# Altium footprint library PowerDistLib.PcbLib: 31 footprints (part 1 of 2)
Each footprint in its own frame and in the unit in brackets; x right, y up, seen from the top. Pads: shape width x height; smd on the part's side, far side on the other; paste and mask are expansions set on the pad; w line width, h text height; cw(c..) or ccw(c..) is an arc to the next point about the centre after c.
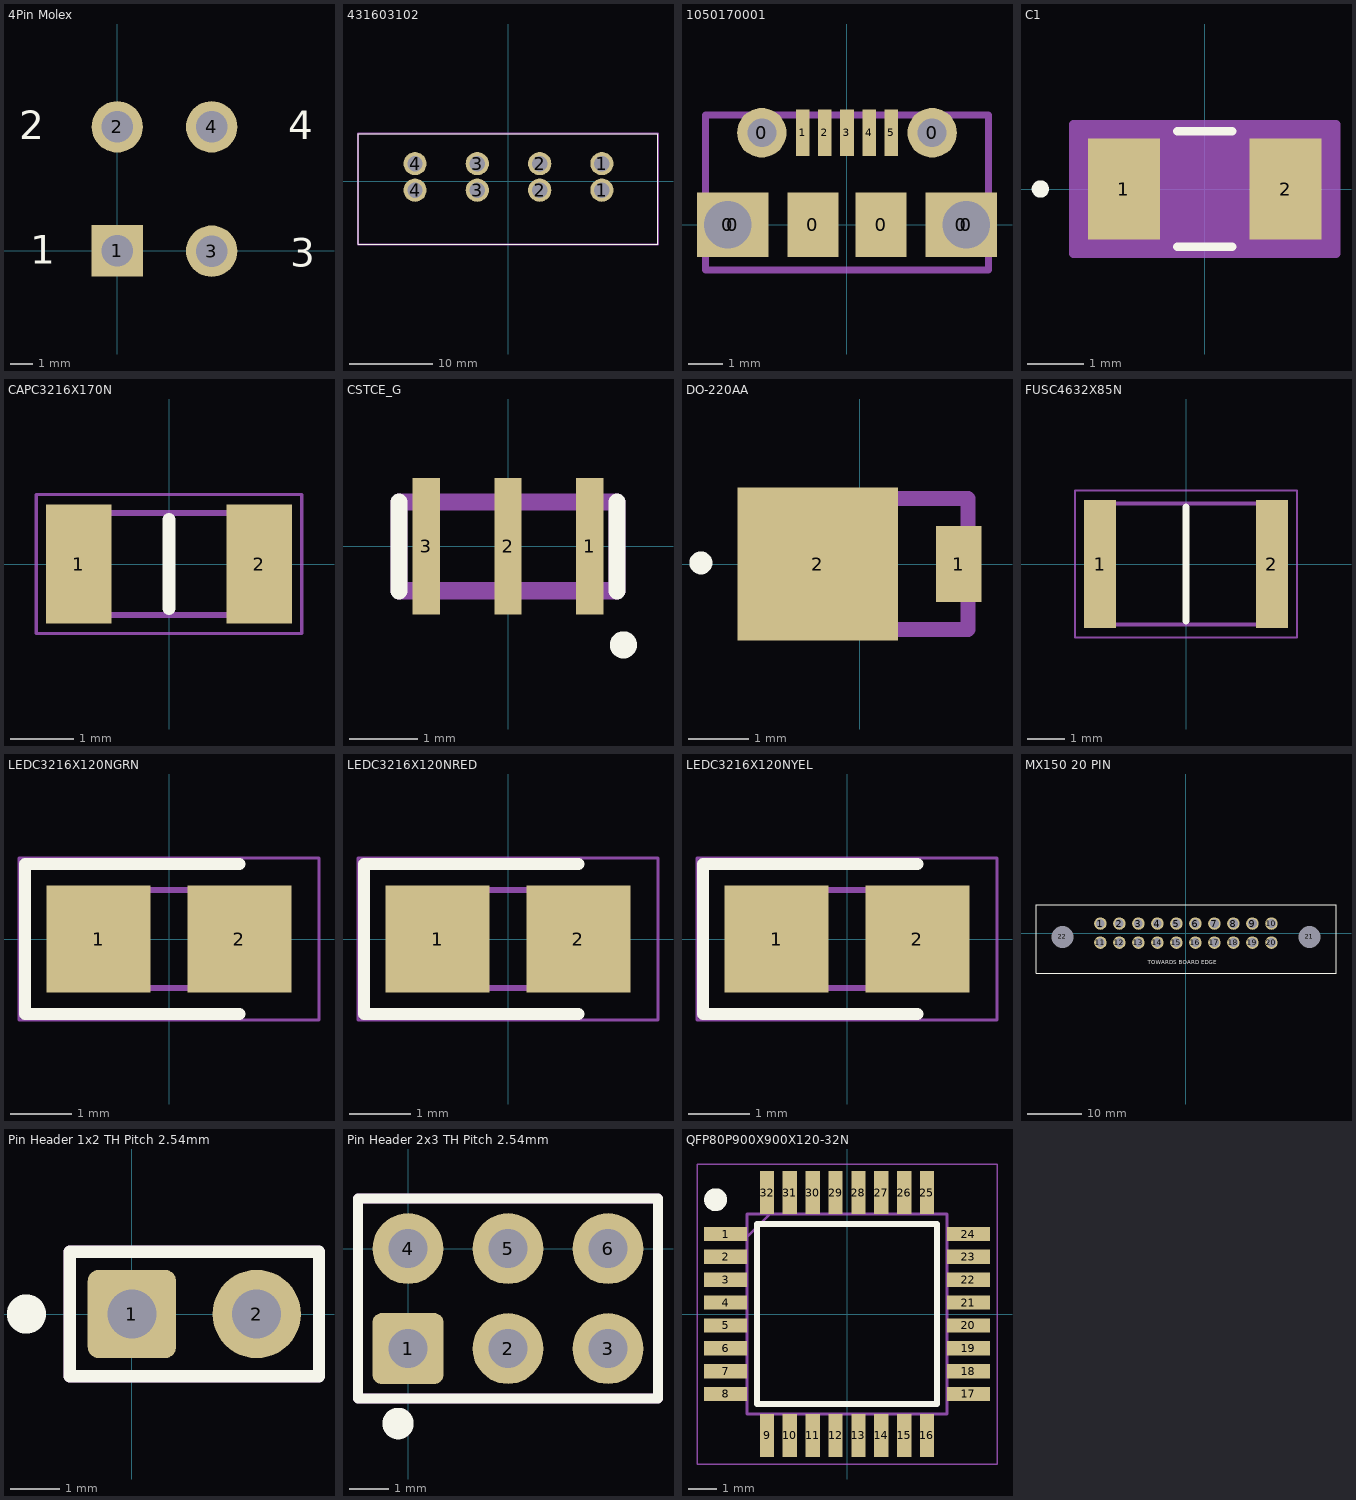
[diagram p0: the footprints below, top view; thin cyan lines are the x and y axes]

## 4Pin Molex [mil]
pads (4):
  rect 90x90 hole 55: 1(0,0)
  round 90 hole 55: 2(-0.1,217) 3(165.4,-0.6) 4(165.4,217)
Top Overlay:
  text "3" at 303.4,-27.8 h50
  text "4" at 299.7,195.1 h50
  text "2" at -172.2,195.1 h50
  text "1" at -152.3,-22.6 h50
3D body "039281043.stp": height 503.94, standoff -137.8, extent -121.92,-85.37 287.53,347.7

## 431603102 [mm]
pads (8):
  round 2.79 hole 1.86: 1(11.292,-1.091) 1(11.292,2.1) 2(3.81,-1.091) 2(3.81,2.1) 3(-3.69,-1.091) 3(-3.69,2.1) 4(-11.18,-1.091) 4(-11.18,2.1)
Top Overlay:
  lines w0.1: -18.034,-7.62 18.034,-7.62 18.034,5.715 -18.034,5.715 -18.034,2.381 -18.034,-4.286 -18.034,-7.62
Mechanical 15:
  lines w0.2: -18.034,-7.62 -18.034,5.715 18.034,5.715 18.034,-4.445 18.034,-7.62 14.859,-7.62 -18.034,-7.62
3D body "431600104.stp": height 15.38, standoff -3.19, extent -18.004,-7.656 18.064,5.73

## 1050170001 [mm]
pads (13):
  round 1.8 hole 1.4: 0(-3.5,0) 0(3.5,0)
  rect 2.1x1.9 smd: 0(-3.35,0) 0(3.35,0)
  round 1.45 hole 0.85: 0(-2.5,2.7) 0(2.5,2.7)
  rect 1.5x1.9 smd: 0(-1,0) 0(1,0)
  rect 0.4x1.35 smd: 1(-1.3,2.7) 2(-0.65,2.7) 3(0,2.7) 4(0.65,2.7) 5(1.3,2.7)
Mechanical 15:
  lines w0.2: 4.1,3.225 -4.15,3.225 -4.15,-1.325 4.15,-1.325 4.15,3.225
3D body "1050170001.stp": height 2.78, standoff -0.53, extent -4.1,-2.5 4.1,2.9

## C1 [mil]
pads (2):
  rect 50x70 smd paste+0 mask+0: 1(-56,0) 2(56,0)
Top Overlay:
  circle w6: c-114,0 r3
  lines w6: -18.89,-40 18.89,-40 ; -18.89,40 18.89,40
Mechanical 13:
  circle w0: c-57,0 r3
  lines w1: -67,-35 -67,35 ; -67,-35 -31,-35 -31,35 -67,35 ; -67,-35 67,-35 ; -67,-35 -67,35 ; -67,35 67,35 ; 67,-35 31,-35 31,35 67,35 ; 67,-35 67,35 ; 67,-35 67,35
Mechanical 15:
  region: 91,-45 -91,-45 -91,45 91,45
  lines w6: -91,-45 -91,45 91,45 91,-45 -91,-45
3D body: height 10, standoff 0, extent 0,0 10,10
3D body "C1.stp": height 30.98, standoff 0, extent -67,-34.99 67.01,35
3D body: height 10, standoff 0, extent -20,10 -20,10
3D body: height 10, standoff 0, extent -20,10 -20,10

## CAPC3216X170N [mm]
pads (2):
  rect 1.03x1.87 smd: 1(-1.42,0) 2(1.42,0)
Top Overlay:
  lines w0.2: 0,-0.7 0,0.7
Mechanical 15:
  lines w0.1: -1.6,-0.8 1.6,-0.8 1.6,0.8 -1.6,0.8 -1.6,-0.8
Mechanical 16:
  lines w0.05: -2.085,-1.09 2.085,-1.09 2.085,1.09 -2.085,1.09 -2.085,-1.09
3D body: height 1.27, standoff 0, extent -2.11,-1.115 2.11,1.115

## CSTCE_G [mm]
pads (3):
  rect 0.4x2 smd: 1(1.2,0) 2(0,0) 3(-1.2,0)
Top Overlay:
  circle w0.254: c1.693,-1.444 r0.072
  lines w0.254: -1.6,-0.65 -1.6,0.65 ; 1.6,-0.65 1.6,0.65
Mechanical 15:
  lines w0.254: -1.6,-0.65 1.6,-0.65 1.6,0.65 -1.6,0.65 -1.6,-0.65
3D body "ceramic-resonator-smd-3mm2x1mm3-muratea-cstce.stp": height 0.7, standoff 0, extent -1.6,-0.65 1.6,0.65

## DO-220AA [mil]
pads (2):
  rect 30x50 smd: 1(65.06,0)
  rect 105.12x100 smd: 2(-27.5,0)
Top Overlay:
  circle w10: c-104.06,0.75 r2.55
Mechanical 15:
  lines w10: -71.06,-42.91 -71.06,42.91 71.06,42.91 71.06,-42.91 -71.06,-42.91
3D body "SMP Package.STEP": height 39.37, standoff 0, extent -75.79,-40 75.78,39.92

## FUSC4632X85N [mm]
pads (2):
  rect 0.85x3.43 smd: 1(-2.3,0) 2(2.3,0)
Top Overlay:
  lines w0.2: 0,-1.52 0,1.52
Mechanical 15:
  lines w0.1: -2.275,-1.62 -2.275,1.62 2.275,1.62 2.275,-1.62 -2.275,-1.62
Mechanical 16:
  lines w0.05: -2.975,-1.965 -2.975,1.965 2.975,1.965 2.975,-1.965 -2.975,-1.965
3D body "MF-MSMF050-2.stp": height 0.85, standoff 0, extent -2.275,-1.62 2.275,1.62

## LEDC3216X120NGRN [mm]
pads (2):
  rect 1.7x1.75 smd: 1(-1.15,0) 2(1.15,0)
Top Overlay:
  lines w0.2: 1.15,-1.225 -2.35,-1.225 -2.35,1.225 1.15,1.225
Mechanical 15:
  lines w0.1: -1.6,0.267 -1.067,0.8 ; -1.6,-0.8 1.6,-0.8 1.6,0.8 -1.6,0.8 -1.6,-0.8
Mechanical 16:
  lines w0.05: -2.45,-1.325 2.45,-1.325 2.45,1.325 -2.45,1.325 -2.45,-1.325
3D body "LED 1206 Grn.stp": height 1.1, standoff 0, extent -1.6,-0.8 1.6,0.8

## LEDC3216X120NRED [mm]
pads (2):
  rect 1.7x1.75 smd: 1(-1.15,0) 2(1.15,0)
Top Overlay:
  lines w0.2: 1.15,-1.225 -2.35,-1.225 -2.35,1.225 1.15,1.225
Mechanical 15:
  lines w0.1: -1.6,0.267 -1.067,0.8 ; -1.6,-0.8 -1.6,0.8 1.6,0.8 1.6,-0.8 -1.6,-0.8
Mechanical 16:
  lines w0.05: -2.45,-1.325 -2.45,1.325 2.45,1.325 2.45,-1.325 -2.45,-1.325
3D body "LED 1206 Red.stp": height 1.1, standoff 0, extent -1.6,-0.8 1.6,0.8

## LEDC3216X120NYEL [mm]
pads (2):
  rect 1.7x1.75 smd: 1(-1.15,0) 2(1.15,0)
Top Overlay:
  lines w0.2: 1.15,-1.225 -2.35,-1.225 -2.35,1.225 1.15,1.225
Mechanical 15:
  lines w0.1: -1.6,0.267 -1.067,0.8 ; -1.6,-0.8 -1.6,0.8 1.6,0.8 1.6,-0.8 -1.6,-0.8
Mechanical 16:
  lines w0.05: -2.45,-1.325 -2.45,1.325 2.45,1.325 2.45,-1.325 -2.45,-1.325
3D body "LED 1206 Yel.stp": height 1.1, standoff 0, extent -1.6,-0.8 1.6,0.8

## MX150 20 PIN [mm]
height 25.29
pads (22):
  round 2.3 hole 1.6: 1(-15.75,1.75) 2(-12.25,1.75) 3(-8.75,1.75) 4(-5.25,1.75) 5(-1.75,1.75) 6(1.75,1.75) 7(5.25,1.75) 8(8.75,1.75) 9(12.25,1.75) 10(15.75,1.75) 11(-15.75,-1.75) 12(-12.25,-1.75) 13(-8.75,-1.75) 14(-5.25,-1.75) 15(-1.75,-1.75) 16(1.75,-1.75) 17(5.25,-1.75) 18(8.75,-1.75) 19(12.25,-1.75) 20(15.75,-1.75)
  round 1.9 hole 4.05 unplated: 21(22.75,-0.71) 22(-22.75,-0.71)
Top Overlay:
  lines w0.203: -27.59,-7.43 27.63,-7.43 27.63,5.24 -27.59,5.24 -27.59,-7.43
  text "TOWARDS BOARD EDGE" at -7,-5.78 h0.76
3D body "348302001.stp": height 23.64, standoff -2.85, extent -31.775,-39.98 31.916,2.579

## PCBComponent_1 [mm]

## Pin Header 1x2 TH Pitch 2.54mm [mm]
pads (2):
  rrect25% 1.8x1.8 hole 1: 1(0,0)
  round 1.8 hole 1: 2(2.54,0)
Top Overlay:
  circle w0.5: c-2.15,0 r0.15
  lines w0.254: 1.27,1.27 -1.27,1.27 ; -1.27,1.27 -1.27,-1.27 3.81,-1.27 3.81,1.27 -1.27,1.27
Mechanical 3:
  lines w0.254: 1.27,1.27 -1.27,1.27 ; -1.27,1.27 -1.27,-1.27 3.81,-1.27 3.81,1.27 -1.27,1.27
3D body "Pin Header 1x2 TH Pitch 2.54mm.stp": height 9.5, standoff -3.2, extent -1.27,-1.27 3.81,1.27

## Pin Header 2x3 TH Pitch 2.54mm [mm]
pads (6):
  rrect25% 1.8x1.8 hole 1: 1(0,-2.54)
  round 1.8 hole 1: 2(2.54,-2.54) 3(5.08,-2.54) 4(0,0) 5(2.54,0) 6(5.08,0)
Top Overlay:
  circle w0.5: c-0.254,-4.445 r0.15
  lines w0.254: 1.27,1.27 -1.27,1.27 ; -1.27,1.27 6.35,1.27 6.35,-1.27 6.35,-3.81 -1.27,-3.81 -1.27,-1.27 -1.27,1.27
Mechanical 3:
  lines w0.254: 1.27,1.27 -1.27,1.27 ; -1.27,1.27 6.35,1.27 6.35,-1.27 6.35,-3.81 -1.27,-3.81 -1.27,-1.27 -1.27,1.27
3D body "Pin Header 1x3 TH Pitch 2.54mm.stp": height 9.5, standoff -3.2, extent -1.27,-1.27 6.35,1.27
3D body "Pin Header 1x3 TH Pitch 2.54mm.stp": height 9.5, standoff -3.2, extent -1.27,-3.81 6.35,-1.27
3D body "Pin Header 1x3 TH Pitch 2.54mm.stp": height 9.5, standoff -3.2, extent -1.27,-1.27 6.35,1.27
3D body "Pin Header 1x3 TH Pitch 2.54mm.stp": height 9.5, standoff -3.2, extent -1.27,-3.81 6.35,-1.27

## QFP80P900X900X120-32N [mm]
pads (32):
  rect 1.5x0.5 smd: 1(-4.25,2.8) 2(-4.25,2) 3(-4.25,1.2) 4(-4.25,0.4) 5(-4.25,-0.4) 6(-4.25,-1.2) 7(-4.25,-2) 8(-4.25,-2.8) 17(4.25,-2.8) 18(4.25,-2) 19(4.25,-1.2) 20(4.25,-0.4) 21(4.25,0.4) 22(4.25,1.2) 23(4.25,2) 24(4.25,2.8)
  rect 0.5x1.5 smd: 9(-2.8,-4.25) 10(-2,-4.25) 11(-1.2,-4.25) 12(-0.4,-4.25) 13(0.4,-4.25) 14(1.2,-4.25) 15(2,-4.25) 16(2.8,-4.25) 25(2.8,4.25) 26(2,4.25) 27(1.2,4.25) 28(0.4,4.25) 29(-0.4,4.25) 30(-1.2,4.25) 31(-2,4.25) 32(-2.8,4.25)
Top Overlay:
  circle w0.4: c-4.6,4 r0.2
  lines w0.2: -3.15,-3.15 3.15,-3.15 3.15,3.15 -3.15,3.15 -3.15,-3.15
Mechanical 15:
  lines w0.1: -3.5,2.7 -2.7,3.5 ; -3.5,-3.5 3.5,-3.5 3.5,3.5 -3.5,3.5 -3.5,-3.5
Mechanical 16:
  lines w0.05: -5.25,-5.25 5.25,-5.25 5.25,5.25 -5.25,5.25 -5.25,-5.25
3D body: height 0.25, standoff 0, extent -0.254,-0.381 0.127,0
3D body "ATMEGA328P-AU.stp": height 1.2, standoff 0, extent -4.5,-4.5 4.5,4.5